# Altium footprint library PCB1.PcbLib: 18 footprints (part 1 of 2)
Each footprint in its own frame and in the unit in brackets; x right, y up, seen from the top. Pads: shape width x height; smd on the part's side, far side on the other; paste and mask are expansions set on the pad; w line width, h text height; cw(c..) or ccw(c..) is an arc to the next point about the centre after c.
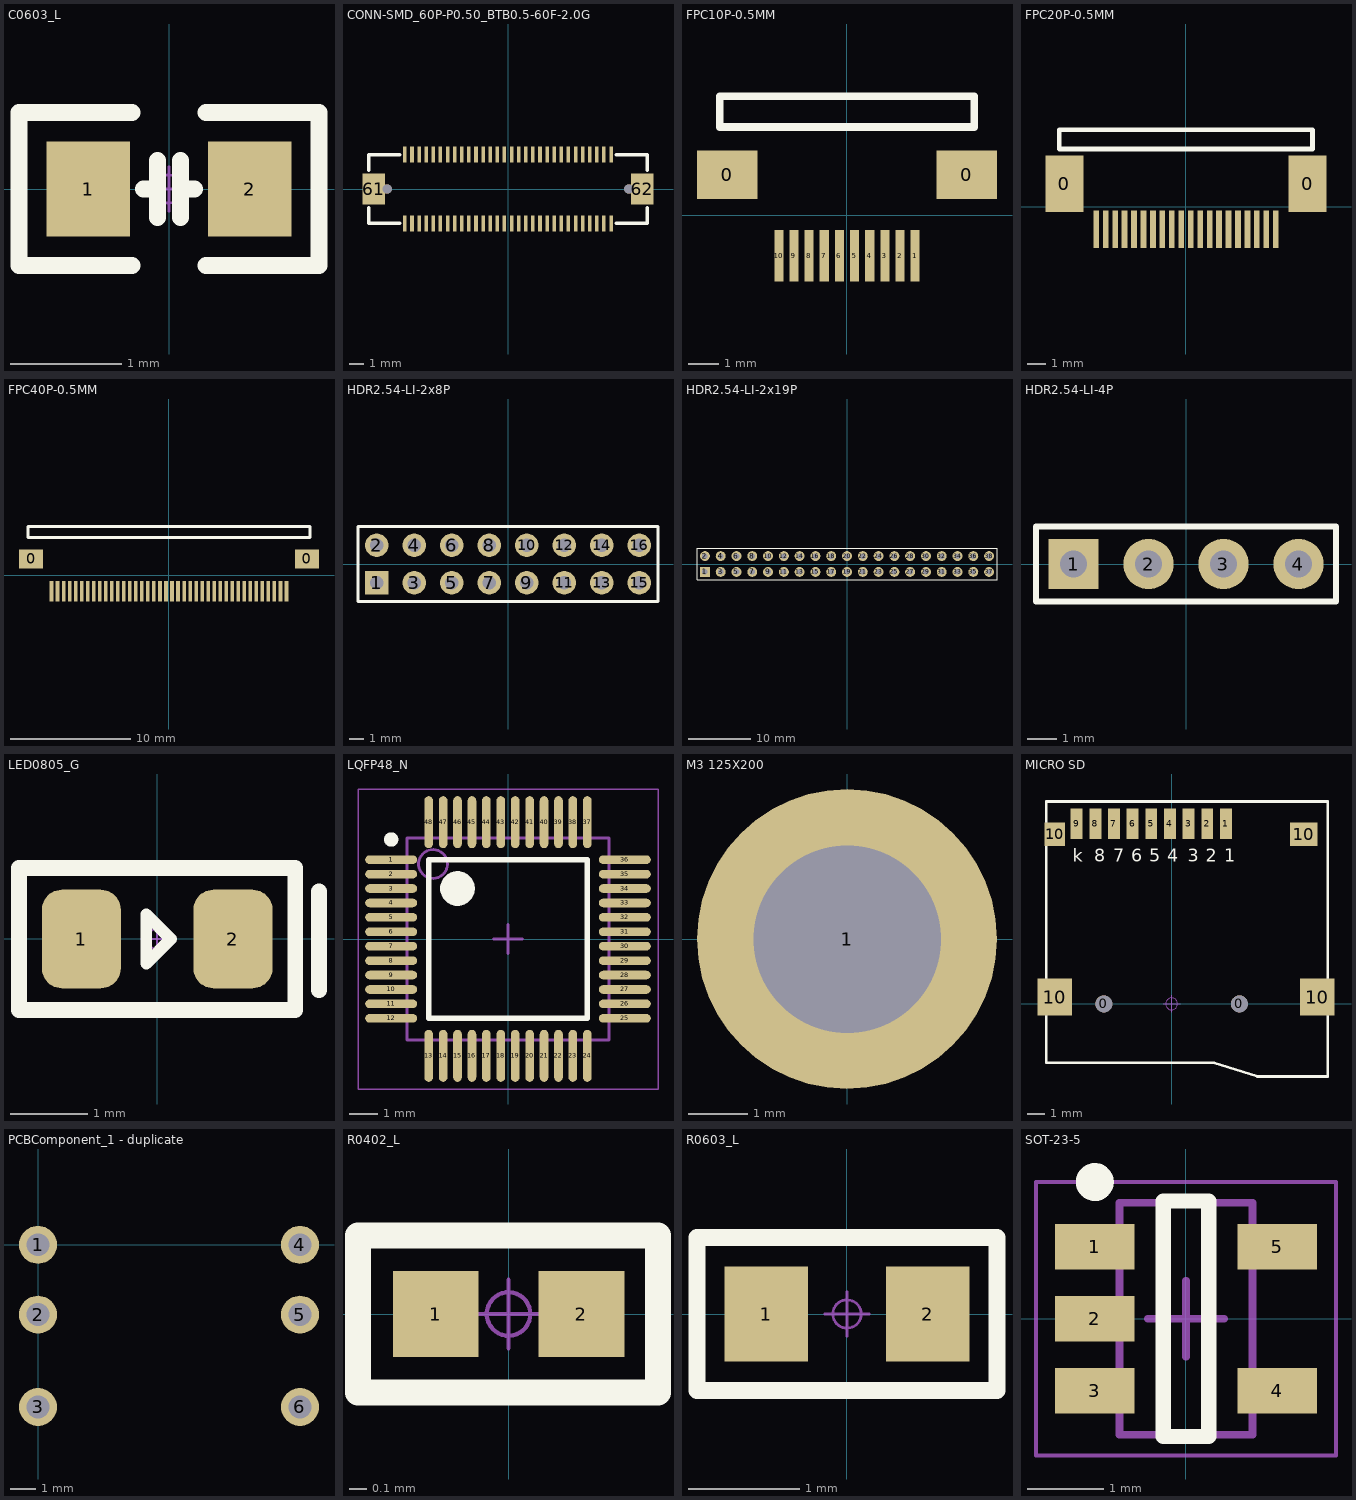
[diagram p0: the footprints below, top view; thin cyan lines are the x and y axes]

## C0603_L [mm]
pads (2):
  rect 0.75x0.85 smd: 1(-0.725,0) 2(0.725,0)
Top Overlay:
  lines w0.152: -0.33,-0.686 -1.346,-0.686 -1.346,0.686 -0.33,0.686 ; -0.229,0 -0.102,0 ; -0.102,-0.254 -0.102,0.254 ; 0.102,-0.254 0.102,0.254 ; 0.102,0 0.229,0 ; 0.33,-0.686 1.346,-0.686 1.346,0.686 0.33,0.686
Mechanical 15:
  circle w0.025: c0,0 r0.127
  lines w0.025: -0.2,0 0.2,0 ; 0,-0.2 0,0.2
3D body "C0603H08-2S.stp": height 0.8, standoff 0, extent -0.8,-0.4 0.8,0.4

## CONN-SMD_60P-P0.50_BTB0.5-60F-2.0G [mm]
pads (64):
  rect 0.25x1.15 smd paste+0 mask+0.051: 1(-7.25,2.425) 2(-7.25,-2.425) 3(-6.75,2.425) 4(-6.75,-2.425) 5(-6.25,2.425) 6(-6.25,-2.425) 7(-5.75,2.425) 8(-5.75,-2.425) 9(-5.25,2.425) 10(-5.25,-2.425) 11(-4.75,2.425) 12(-4.75,-2.425) 13(-4.25,2.425) 14(-4.25,-2.425) 15(-3.75,2.425) 16(-3.75,-2.425) 17(-3.25,2.425) 18(-3.25,-2.425) 19(-2.75,2.425) 20(-2.75,-2.425) 21(-2.25,2.425) 22(-2.25,-2.425) 23(-1.75,2.425) 24(-1.75,-2.425) 25(-1.25,2.425) 26(-1.25,-2.425) 27(-0.75,2.425) 28(-0.75,-2.425) 29(-0.25,2.425) 30(-0.25,-2.425) 31(0.25,2.425) 32(0.25,-2.425) 33(0.75,2.425) 34(0.75,-2.425) 35(1.25,2.425) 36(1.25,-2.425) 37(1.75,2.425) 38(1.75,-2.425) 39(2.25,2.425) 40(2.25,-2.425) 41(2.75,2.425) 42(2.75,-2.425) 43(3.25,2.425) 44(3.25,-2.425) 45(3.75,2.425) 46(3.75,-2.425) 47(4.25,2.425) 48(4.25,-2.425) 49(4.75,2.425) 50(4.75,-2.425) 51(5.25,2.425) 52(5.25,-2.425) 53(5.75,2.425) 54(5.75,-2.425) 55(6.25,2.425) 56(6.25,-2.425) 57(6.75,2.425) 58(6.75,-2.425) 59(7.25,2.425) 60(7.25,-2.425)
  rect 1.6x2.2 smd paste+0 mask+0.051: 61(-9.45,0) 62(9.45,0)
  round 0.65 hole 0.65 unplated paste+0: ""(-8.5,0) ""(8.5,0)
Top Overlay:
  lines w0.254: -9.8,-1.331 -9.8,-2.4 -9.5,-2.4 ; -9.8,1.331 -9.8,2.4 -7.606,2.4 ; -9.7,-2.4 -7.606,-2.4 ; 7.606,-2.4 9.8,-2.4 9.8,-1.331 ; 7.606,2.4 9.8,2.4 9.8,1.331
Mechanical 15:
  circle w0.25: c8.5,0 r0.125
  circle w0.25: c-8.5,0 r0.125

## FPC10P-0.5MM [mm]
pads (12):
  rect 2x1.6 smd: 0(-3.95,1.34) 0(3.95,1.34)
  rect 0.3x1.7 smd: 1(2.25,-1.34) 2(1.75,-1.34) 3(1.25,-1.34) 4(0.75,-1.34) 5(0.25,-1.34) 6(-0.25,-1.34) 7(-0.75,-1.34) 8(-1.25,-1.34) 9(-1.75,-1.34) 10(-2.25,-1.34)
Top Overlay:
  lines w0.254: -4.201,2.912 -4.201,3.928 4.199,3.928 4.199,2.912 -4.201,2.912
3D body "FPC-10P0.5mm.stp": height 2.1, standoff 0.1, extent -4.499,-1.599 4.5,4.408

## FPC20P-0.5MM [mm]
pads (22):
  rect 2x3 smd: 0(-6.436,1.202) 0(6.436,1.202)
  rect 0.3x2 smd: 1(4.75,-1.202) 2(4.25,-1.202) 3(3.75,-1.202) 4(3.25,-1.202) 5(2.75,-1.202) 6(2.25,-1.202) 7(1.75,-1.202) 8(1.25,-1.202) 9(0.75,-1.202) 10(0.25,-1.202) 11(-0.25,-1.202) 12(-0.75,-1.202) 13(-1.25,-1.202) 14(-1.75,-1.202) 15(-2.25,-1.202) 16(-2.75,-1.202) 17(-3.25,-1.202) 18(-3.75,-1.202) 19(-4.25,-1.202) 20(-4.75,-1.202)
Top Overlay:
  lines w0.254: -6.701,3.049 6.699,3.049 6.699,4.065 -6.701,4.065 -6.701,3.049
3D body "52892-2090.stp": height 2.1, standoff 0.06, extent -7.7,-1.5 7.7,4

## FPC40P-0.5MM [mm]
pads (42):
  rect 2x1.6 smd: 0(-11.45,1.34) 0(11.45,1.34)
  rect 0.3x1.7 smd: 1(9.75,-1.34) 2(9.25,-1.34) 3(8.75,-1.34) 4(8.25,-1.34) 5(7.75,-1.34) 6(7.25,-1.34) 7(6.75,-1.34) 8(6.25,-1.34) 9(5.75,-1.34) 10(5.25,-1.34) 11(4.75,-1.34) 12(4.25,-1.34) 13(3.75,-1.34) 14(3.25,-1.34) 15(2.75,-1.34) 16(2.25,-1.34) 17(1.75,-1.34) 18(1.25,-1.34) 19(0.75,-1.34) 20(0.25,-1.34) 21(-0.25,-1.34) 22(-0.75,-1.34) 23(-1.25,-1.34) 24(-1.75,-1.34) 25(-2.25,-1.34) 26(-2.75,-1.34) 27(-3.25,-1.34) 28(-3.75,-1.34) 29(-4.25,-1.34) 30(-4.75,-1.34) 31(-5.25,-1.34) 32(-5.75,-1.34) 33(-6.25,-1.34) 34(-6.75,-1.34) 35(-7.25,-1.34) 36(-7.75,-1.34) 37(-8.25,-1.34) 38(-8.75,-1.34) 39(-9.25,-1.34) 40(-9.75,-1.34)
Top Overlay:
  lines w0.254: -11.701,3.102 11.699,3.102 11.699,4.028 -11.701,4.028 -11.701,3.102
3D body "User Library-FPC-40-2.STEP": height 2, standoff 0.05, extent -12.201,-1.792 12.199,4.508

## HDR2.54-LI-2x8P [mm]
pads (16):
  rect 1.6x1.6 hole 0.9: 1(-8.89,-1.27)
  round 1.6 hole 0.9: 2(-8.89,1.27) 3(-6.35,-1.27) 4(-6.35,1.27) 5(-3.81,-1.27) 6(-3.81,1.27) 7(-1.27,-1.27) 8(-1.27,1.27) 9(1.27,-1.27) 10(1.27,1.27) 11(3.81,-1.27) 12(3.81,1.27) 13(6.35,-1.27) 14(6.35,1.27) 15(8.89,-1.27) 16(8.89,1.27)
Top Overlay:
  lines w0.2: -10.16,-2.54 -10.16,2.54 10.16,2.54 10.16,-2.54 -10.16,-2.54
3D body "HDR2.54-1x2P.STEP": height 8.5, standoff -3, extent -7.62,-2.54 -5.08,2.54
3D body "HDR2.54-1x2P.STEP": height 8.5, standoff -3, extent -10.16,-2.54 -7.62,2.54
3D body "HDR2.54-1x2P.STEP": height 8.5, standoff -3, extent -2.54,-2.54 0,2.54
3D body "HDR2.54-1x2P.STEP": height 8.5, standoff -3, extent -5.08,-2.54 -2.54,2.54
3D body "HDR2.54-1x2P.STEP": height 8.5, standoff -3, extent 2.54,-2.54 5.08,2.54
3D body "HDR2.54-1x2P.STEP": height 8.5, standoff -3, extent 0,-2.54 2.54,2.54
3D body "HDR2.54-1x2P.STEP": height 8.5, standoff -3, extent 7.62,-2.54 10.16,2.54
3D body "HDR2.54-1x2P.STEP": height 8.5, standoff -3, extent 5.08,-2.54 7.62,2.54

## HDR2.54-LI-2x19P [mm]
pads (38):
  rect 1.6x1.6 hole 0.9: 1(-22.86,-1.27)
  round 1.6 hole 0.9: 2(-22.86,1.27) 3(-20.32,-1.27) 4(-20.32,1.27) 5(-17.78,-1.27) 6(-17.78,1.27) 7(-15.24,-1.27) 8(-15.24,1.27) 9(-12.7,-1.27) 10(-12.7,1.27) 11(-10.16,-1.27) 12(-10.16,1.27) 13(-7.62,-1.27) 14(-7.62,1.27) 15(-5.08,-1.27) 16(-5.08,1.27) 17(-2.54,-1.27) 18(-2.54,1.27) 19(0,-1.27) 20(0,1.27) 21(2.54,-1.27) 22(2.54,1.27) 23(5.08,-1.27) 24(5.08,1.27) 25(7.62,-1.27) 26(7.62,1.27) 27(10.16,-1.27) 28(10.16,1.27) 29(12.7,-1.27) 30(12.7,1.27) 31(15.24,-1.27) 32(15.24,1.27) 33(17.78,-1.27) 34(17.78,1.27) 35(20.32,-1.27) 36(20.32,1.27) 37(22.86,-1.27) 38(22.86,1.27)
Top Overlay:
  lines w0.2: -24.13,-2.54 24.13,-2.54 24.13,2.54 -24.13,2.54 -24.13,-2.54
3D body "HDR2.54-1x2P.STEP": height 8.5, standoff -3, extent -21.59,-2.54 -19.05,2.54
3D body "HDR2.54-1x2P.STEP": height 8.5, standoff -3, extent -24.13,-2.54 -21.59,2.54
3D body "HDR2.54-1x2P.STEP": height 8.5, standoff -3, extent -16.51,-2.54 -13.97,2.54
3D body "HDR2.54-1x2P.STEP": height 8.5, standoff -3, extent -19.05,-2.54 -16.51,2.54
3D body "HDR2.54-1x2P.STEP": height 8.5, standoff -3, extent -11.43,-2.54 -8.89,2.54
3D body "HDR2.54-1x2P.STEP": height 8.5, standoff -3, extent -13.97,-2.54 -11.43,2.54
3D body "HDR2.54-1x2P.STEP": height 8.5, standoff -3, extent -6.35,-2.54 -3.81,2.54
3D body "HDR2.54-1x2P.STEP": height 8.5, standoff -3, extent -8.89,-2.54 -6.35,2.54
3D body "HDR2.54-1x2P.STEP": height 8.5, standoff -3, extent -1.27,-2.54 1.27,2.54
3D body "HDR2.54-1x2P.STEP": height 8.5, standoff -3, extent -3.81,-2.54 -1.27,2.54
3D body "HDR2.54-1x2P.STEP": height 8.5, standoff -3, extent 3.81,-2.54 6.35,2.54
3D body "HDR2.54-1x2P.STEP": height 8.5, standoff -3, extent 1.27,-2.54 3.81,2.54
3D body "HDR2.54-1x2P.STEP": height 8.5, standoff -3, extent 8.89,-2.54 11.43,2.54
3D body "HDR2.54-1x2P.STEP": height 8.5, standoff -3, extent 6.35,-2.54 8.89,2.54
3D body "HDR2.54-1x2P.STEP": height 8.5, standoff -3, extent 13.97,-2.54 16.51,2.54
3D body "HDR2.54-1x2P.STEP": height 8.5, standoff -3, extent 11.43,-2.54 13.97,2.54
3D body "HDR2.54-1x2P.STEP": height 8.5, standoff -3, extent 19.05,-2.54 21.59,2.54
3D body "HDR2.54-1x2P.STEP": height 8.5, standoff -3, extent 16.51,-2.54 19.05,2.54
3D body "HDR2.54-1x2P.STEP": height 8.5, standoff -3, extent 21.59,-2.54 24.13,2.54

## HDR2.54-LI-4P [mm]
pads (4):
  rect 1.7x1.7 hole 0.9: 1(-3.81,0)
  round 1.7 hole 0.9: 2(-1.27,0) 3(1.27,0) 4(3.81,0)
Top Overlay:
  lines w0.2: -5.08,-1.27 -5.08,1.27 5.08,1.27 5.08,-1.27 -5.08,-1.27
3D body "HDR2.54-1P.STEP": height 2.54, standoff -8.96, extent 2.54,-1.27 5.08,1.27
3D body "HDR2.54-1P.STEP": height 2.54, standoff -8.96, extent 0,-1.27 2.54,1.27
3D body "HDR2.54-1P.STEP": height 2.54, standoff -8.96, extent -2.54,-1.27 0,1.27
3D body "HDR2.54-1P.STEP": height 2.54, standoff -8.96, extent -5.08,-1.27 -2.54,1.27

## LED0805_G [mil]
pads (2):
  rrect50% 40x50 smd: 1(-38.4,0) 2(38.4,0)
Top Overlay:
  lines w6: -5.5,-12.5 -5.5,12.5 7,0 -5.5,-12.5
  lines w8: 82,-26 82,24 ; -70,-36 70,-36 70,36 -70,36 -70,-36
Mechanical 15:
  circle w1: c0,0 r5
  lines w1: -7.87,0 7.87,0 ; 0,-7.87 0,7.87
3D body "LED 0805玻璃罩.STEP": height 31.69, standoff 12.01, extent -29.53,-24.6 29.53,24.6
3D body "LED_0805-G.STEP": height 26.34, standoff -0.04, extent -39.37,-24.65 39.37,24.64

## LQFP48_N [mm]
height 1.6
pads (48):
  oval 1.8x0.3 smd: 1(-4.05,2.75) 2(-4.05,2.25) 3(-4.05,1.75) 4(-4.05,1.25) 5(-4.05,0.75) 6(-4.05,0.25) 7(-4.05,-0.25) 8(-4.05,-0.75) 9(-4.05,-1.25) 10(-4.05,-1.75) 11(-4.05,-2.25) 12(-4.05,-2.75) 25(4.05,-2.75) 26(4.05,-2.25) 27(4.05,-1.75) 28(4.05,-1.25) 29(4.05,-0.75) 30(4.05,-0.25) 31(4.05,0.25) 32(4.05,0.75) 33(4.05,1.25) 34(4.05,1.75) 35(4.05,2.25) 36(4.05,2.75)
  oval 0.3x1.8 smd: 13(-2.75,-4.05) 14(-2.25,-4.05) 15(-1.75,-4.05) 16(-1.25,-4.05) 17(-0.75,-4.05) 18(-0.25,-4.05) 19(0.25,-4.05) 20(0.75,-4.05) 21(1.25,-4.05) 22(1.75,-4.05) 23(2.25,-4.05) 24(2.75,-4.05) 37(2.75,4.05) 38(2.25,4.05) 39(1.75,4.05) 40(1.25,4.05) 41(0.75,4.05) 42(0.25,4.05) 43(-0.25,4.05) 44(-0.75,4.05) 45(-1.25,4.05) 46(-1.75,4.05) 47(-2.25,4.05) 48(-2.75,4.05)
Top Overlay:
  circle w0.6: c-1.75,1.75 r0.3
  circle w0.25: c-4.05,3.45 r0.125
  lines w0.2: -2.75,-2.75 2.75,-2.75 2.75,2.75 -2.75,2.75 -2.75,-2.75
Mechanical 13:
  circle w0.1: c-2.6,2.6 r0.5
  lines w0.1: -3.5,-3.5 3.5,-3.5 3.5,3.5 -3.5,3.5 -3.5,-3.5
Mechanical 15:
  lines w0.05: -5.2,-5.2 5.2,-5.2 5.2,5.2 -5.2,5.2 -5.2,-5.2
  lines w0.1: -0.5,0 0.5,0 ; 0,-0.5 0,0.5
3D body "LQFP48-7x7.STEP": height 1.45, standoff 0, extent -4.503,-4.503 4.503,4.503

## M3 125X200 [mm]
pads (1):
  round 5.08 hole 3.175: 1(0,0)

## MICRO SD [mm]
pads (15):
  round 1 hole 1 unplated: 0(-4,0) 0(4,0)
  rect 0.7x1.8 smd: 1(3.2,10.627) 2(2.1,10.627) 3(1,10.627) 4(-0.1,10.627) 5(-1.2,10.627) 6(-2.3,10.627) 7(-3.4,10.627) 8(-4.5,10.627) 9(-5.6,10.627)
  rect 2.032x2.2 smd: 10(-6.9,0.4) 10(8.6,0.4)
  rect 1.2x1.4 smd: 10(-6.9,10)
  rect 1.6x1.4 smd: 10(7.8,10)
Top Overlay:
  lines w0.152: 2.489,-3.47 5.054,-4.283 9.204,-4.283 9.204,11.938 -7.402,11.938 -7.402,-3.47 2.514,-3.47
  text "k" at -5.842,8.382 h0.76
  text "8" at -4.572,8.382 h0.76
  text "7" at -3.455,8.382 h0.76
  text "6" at -2.388,8.382 h0.76
  text "5" at -1.321,8.382 h0.76
  text "4" at -0.254,8.382 h0.76
  text "3" at 0.939,8.382 h0.76
  text "2" at 2.006,8.382 h0.76
  text "1" at 3.098,8.382 h0.76
Mechanical 15:
  circle w0.05: c0,0 r0.35
  lines w0.05: -0.5,0 0.5,0 ; 0,-0.5 0,0.5
3D body "TF.STEP": height 2, standoff -0.45, extent -7.05,-3.873 8.95,11.377

## PCBComponent_1 - duplicate [mil]
pads (6):
  round 60 hole 36: 1(0,0) 2(0,-110.24) 3(0,-255.91) 4(413.39,0) 5(413.39,-110.24) 6(413.39,-255.91)
Top Overlay:

## R0402_L [mm]
pads (2):
  rect 0.5x0.5 smd: 1(-0.425,0) 2(0.425,0)
Top Overlay:
  lines w0.152: -0.878,-0.457 0.872,-0.457 0.872,0.457 -0.878,0.457 -0.878,-0.457
Mechanical 15:
  circle w0.025: c0,0 r0.127
  lines w0.025: -0.2,0 0.2,0 ; 0,-0.2 0,0.2
3D body "R0402.STEP": height 0.3, standoff 0, extent -0.5,-0.25 0.5,0.25

## R0603_L [mm]
pads (2):
  rect 0.75x0.85 smd: 1(-0.725,0) 2(0.725,0)
Top Overlay:
  lines w0.152: -1.346,-0.686 1.346,-0.686 1.346,0.686 -1.346,0.686 -1.346,-0.686
Mechanical 15:
  circle w0.025: c0,0 r0.127
  lines w0.025: -0.2,0 0.2,0 ; 0,-0.2 0,0.2
3D body "R0603-2.stp": height 0.4, standoff 0, extent -0.8,-0.4 0.8,0.4

## SOT-23-5 [mm]
height 1.1
pads (5):
  rect 1.05x0.6 smd: 1(-1.2,0.95) 2(-1.2,0) 3(-1.2,-0.95) 4(1.2,-0.95) 5(1.2,0.95)
Top Overlay:
  circle w0.25: c-1.2,1.8 r0.125
  lines w0.2: -0.3,-1.55 -0.3,1.55 0.3,1.55 0.3,-1.55 -0.3,-1.55
Mechanical 13:
  lines w0.1: -0.875,-1.525 -0.875,1.525 0.875,1.525 0.875,-1.525 -0.875,-1.525
Mechanical 15:
  lines w0.05: -1.975,-1.8 1.975,-1.8 1.975,1.8 -1.975,1.8 -1.975,-1.8
  lines w0.1: -0.5,0 0.5,0 ; 0,-0.5 0,0.5
3D body "SOT23-5.STEP": height 1.15, standoff -0.03, extent -1.403,-1.5 1.403,1.5